# Altium integrated library BB Converter Digital to Analog.IntLib: 269 symbols (part 2 of 6)
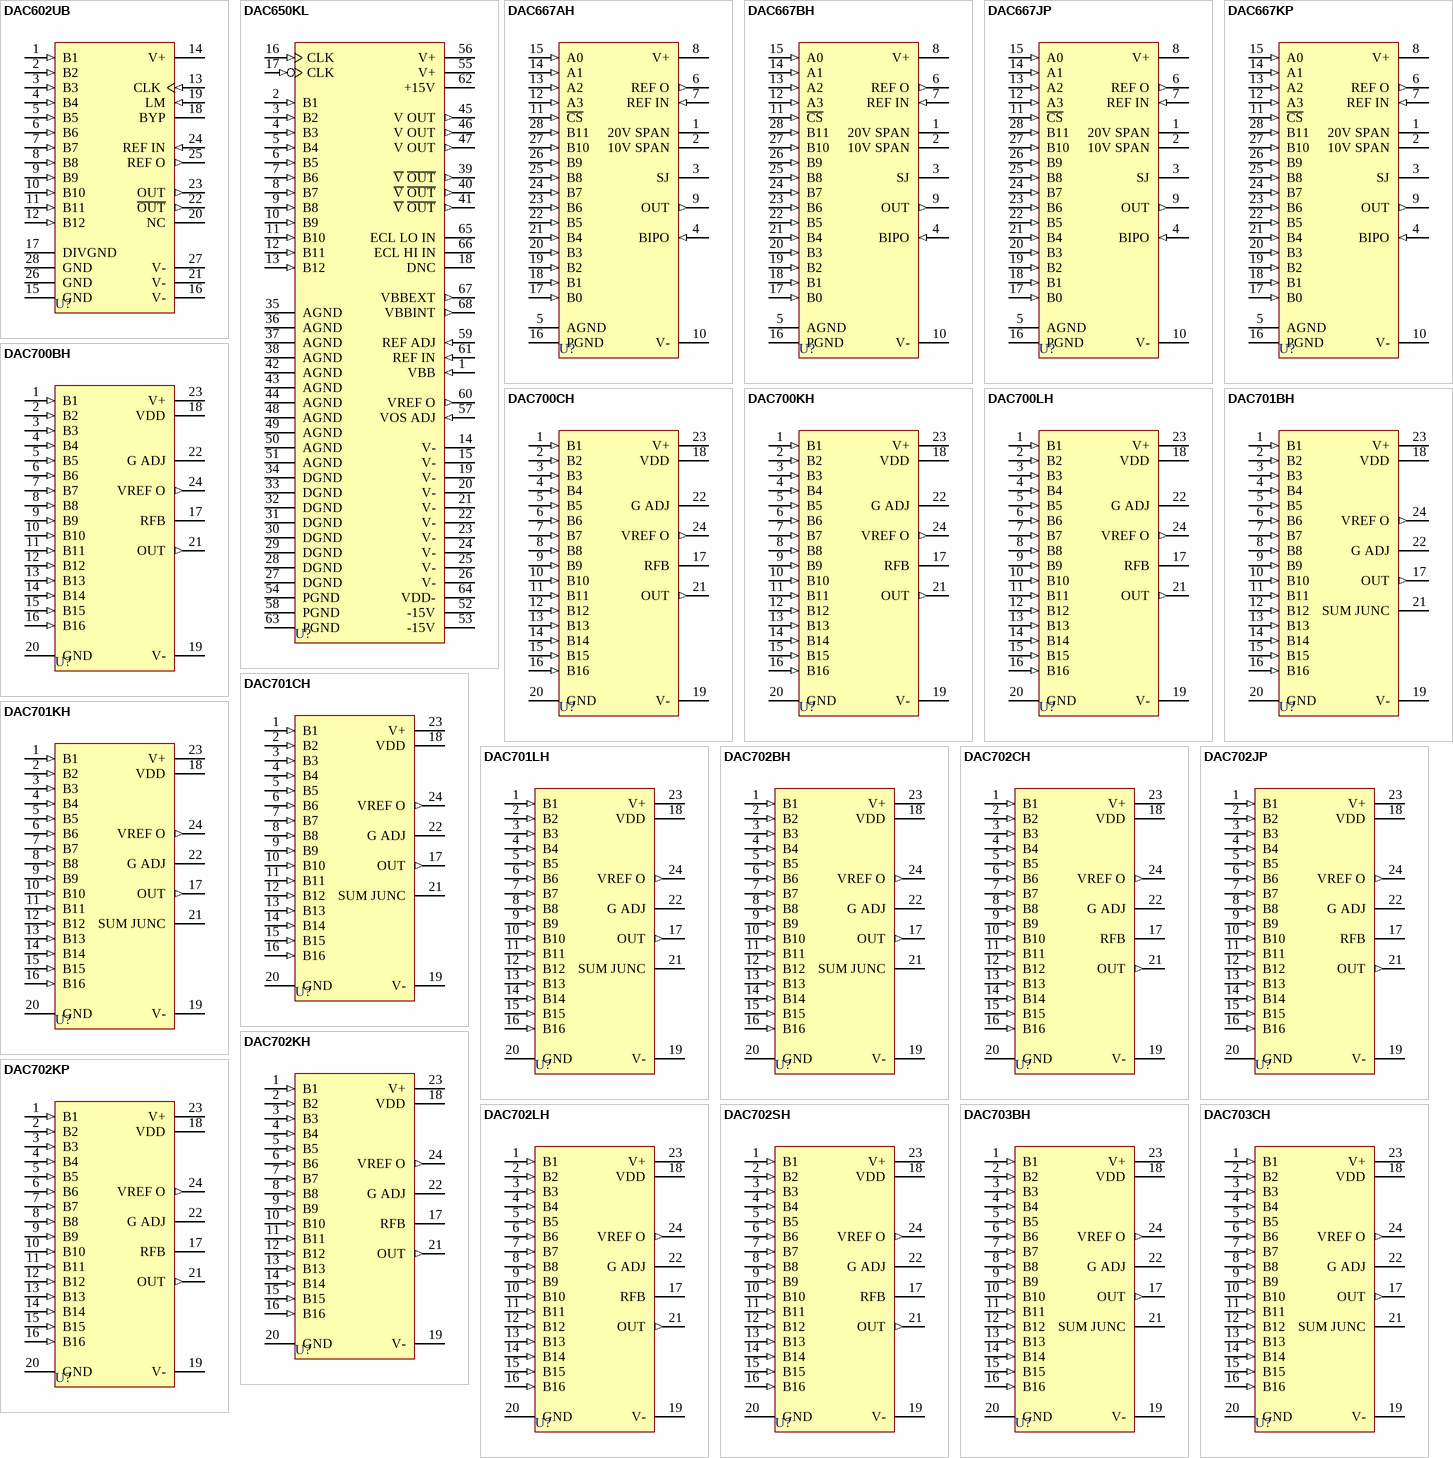
[diagram p11: symbols DAC602UB to DAC703CH]

## DAC650KL
designator U?
12-Bit 500MHz Digital-to-Analog Converter; Note: Do not connect pin 18; Published: 8-Jun-2000; LatestRevisionDate: 13-Apr-2006; LatestRevisionNote: IPC-7351 Footprint Added.; DatasheetVersion: 1994; PackageReference: 256; Publisher: Altium Limited; PackageDescription: 68-Pin Quad Flat Pack 1.27 mm Pitch; ComponentLink1Description: Manufacturer Link; ComponentLink1URL: http://www.ti.com/
footprint 256_N (QFP, 68-Leads, Body 24x24mm, Pitch 1.27mm, IPC Medium Density)
footprint 256_L (QFP, 68-Leads, Body 24x24mm, Pitch 1.27mm, IPC High Density)
footprint 256_M (QFP, 68-Leads, Body 24x24mm, Pitch 1.27mm, IPC Low Density)
3D model DAC650-QFP68 (68-Pin Quad Flat Pack 1.27 mm Pitch)
pins: 1 VBB (in), 2 B1 (in), 3 B2 (in), 4 B3 (in), 5 B4 (in), 6 B5 (in), 7 B6 (in), 8 B7 (in), 9 B8 (in), 10 B9 (in), 11 B10 (in), 12 B11 (in), 13 B12 (in), 14 V- (power), 15 V- (power), 16 CLK (in), 17 CLK (in), 18 DNC, 19 V- (power), 20 V- (power), 21 V- (power), 22 V- (power), 23 V- (power), 24 V- (power), 25 V- (power), 26 V- (power), 27 DGND (power), 28 DGND (power), 29 DGND (power), 30 DGND (power), 31 DGND (power), 32 DGND (power), 33 DGND (power), 34 DGND (power), 35 AGND (power), 36 AGND (power), 37 AGND (power), 38 AGND (power), 39 ~{V} ~{OUT} (out), 40 ~{V} ~{OUT} (out), 41 ~{V} ~{OUT} (out), 42 AGND (power), 43 AGND (power), 44 AGND (power), 45 V OUT (out), 46 V OUT (out), 47 V OUT (out), 48 AGND (power), 49 AGND (power), 50 AGND (power), 51 AGND (power), 52 -15V (power), 53 -15V (power), 54 PGND (power), 55 V+ (power), 56 V+ (power), 57 VOS ADJ (in), 58 PGND (power), 59 REF ADJ (in), 60 VREF O (out), 61 REF IN (in), 62 +15V (power), 63 PGND (power), 64 VDD- (power), 65 ECL LO IN, 66 ECL HI IN, 67 VBBEXT (out), 68 VBBINT (out)

## DAC667AH
designator U?
Microprocessor-Compatible 12-Bit Digital-to-Analog Converter; Published: 8-Jun-2000; LatestRevisionDate: 06-Jun-2005; LatestRevisionNote: Stylized 3D Model Added.; DatasheetVersion: 1996; PackageVersion: revC; PackageReference: 149C; Publisher: Altium Limited; PackageDescription: DIP; 28 Leads; Row Spacing 15.24 mm; Pitch 2.54 mm; ComponentLink1Description: Manufacturer Link; ComponentLink1URL: http://www.ti.com/
footprint 149C (DIP; 28 Leads; Row Spacing 15.24 mm; Pitch 2.54 mm)
3D model 149 (DIP; 28 Leads; Row Spacing 15.24 mm; Pitch 2.54 mm)
pins: 1 20V SPAN, 2 10V SPAN, 3 SJ, 4 BIPO (in), 5 AGND (power), 6 REF O (out), 7 REF IN (in), 8 V+ (power), 9 OUT (out), 10 V- (power), 11 ~{CS} (in), 12 A3 (in), 13 A2 (in), 14 A1 (in), 15 A0 (in), 16 PGND (power), 17 B0 (in), 18 B1 (in), 19 B2 (in), 20 B3 (in), 21 B4 (in), 22 B5 (in), 23 B6 (in), 24 B7 (in), 25 B8 (in), 26 B9 (in), 27 B10 (in), 28 B11 (in)

## DAC667BH
designator U?
Microprocessor-Compatible 12-Bit Digital-to-Analog Converter; Published: 8-Jun-2000; LatestRevisionDate: 06-Jun-2005; LatestRevisionNote: Stylized 3D Model Added.; DatasheetVersion: 1996; PackageVersion: revC; PackageReference: 149C; Publisher: Altium Limited; PackageDescription: DIP; 28 Leads; Row Spacing 15.24 mm; Pitch 2.54 mm; ComponentLink1Description: Manufacturer Link; ComponentLink1URL: http://www.ti.com/
footprint 149C (DIP; 28 Leads; Row Spacing 15.24 mm; Pitch 2.54 mm)
3D model 149 (DIP; 28 Leads; Row Spacing 15.24 mm; Pitch 2.54 mm)
pins: 1 20V SPAN, 2 10V SPAN, 3 SJ, 4 BIPO (in), 5 AGND (power), 6 REF O (out), 7 REF IN (in), 8 V+ (power), 9 OUT (out), 10 V- (power), 11 ~{CS} (in), 12 A3 (in), 13 A2 (in), 14 A1 (in), 15 A0 (in), 16 PGND (power), 17 B0 (in), 18 B1 (in), 19 B2 (in), 20 B3 (in), 21 B4 (in), 22 B5 (in), 23 B6 (in), 24 B7 (in), 25 B8 (in), 26 B9 (in), 27 B10 (in), 28 B11 (in)

## DAC667JP
designator U?
Microprocessor-Compatible 12-Bit Digital-to-Analog Converter; Published: 8-Jun-2000; LatestRevisionDate: 06-Jun-2005; LatestRevisionNote: Stylized 3D Model Added.; DatasheetVersion: 1994; PackageVersion: revJ; PackageReference: 215J; Publisher: Altium Limited; PackageDescription: DIP; 28 Leads; Row Spacing 15.24 mm; Pitch 2.54 mm; Code_JEDEC: MS-011-AB; ComponentLink1Description: Manufacturer Link; ComponentLink1URL: http://www.ti.com/
footprint 215J (DIP; 28 Leads; Row Spacing 15.24 mm; Pitch 2.54 mm)
3D model 215J (DIP; 28 Leads; Row Spacing 15.24 mm; Pitch 2.54 mm)
pins: 1 20V SPAN, 2 10V SPAN, 3 SJ, 4 BIPO (in), 5 AGND (power), 6 REF O (out), 7 REF IN (in), 8 V+ (power), 9 OUT (out), 10 V- (power), 11 ~{CS} (in), 12 A3 (in), 13 A2 (in), 14 A1 (in), 15 A0 (in), 16 PGND (power), 17 B0 (in), 18 B1 (in), 19 B2 (in), 20 B3 (in), 21 B4 (in), 22 B5 (in), 23 B6 (in), 24 B7 (in), 25 B8 (in), 26 B9 (in), 27 B10 (in), 28 B11 (in)

## DAC667KP
designator U?
Microprocessor-Compatible 12-Bit Digital-to-Analog Converter; Published: 8-Jun-2000; LatestRevisionDate: 06-Jun-2005; LatestRevisionNote: Stylized 3D Model Added.; DatasheetVersion: 1994; PackageVersion: revJ; PackageReference: 215J; Publisher: Altium Limited; PackageDescription: DIP; 28 Leads; Row Spacing 15.24 mm; Pitch 2.54 mm; Code_JEDEC: MS-011-AB; ComponentLink1Description: Manufacturer Link; ComponentLink1URL: http://www.ti.com/
footprint 215J (DIP; 28 Leads; Row Spacing 15.24 mm; Pitch 2.54 mm)
3D model 215J (DIP; 28 Leads; Row Spacing 15.24 mm; Pitch 2.54 mm)
pins: 1 20V SPAN, 2 10V SPAN, 3 SJ, 4 BIPO (in), 5 AGND (power), 6 REF O (out), 7 REF IN (in), 8 V+ (power), 9 OUT (out), 10 V- (power), 11 ~{CS} (in), 12 A3 (in), 13 A2 (in), 14 A1 (in), 15 A0 (in), 16 PGND (power), 17 B0 (in), 18 B1 (in), 19 B2 (in), 20 B3 (in), 21 B4 (in), 22 B5 (in), 23 B6 (in), 24 B7 (in), 25 B8 (in), 26 B9 (in), 27 B10 (in), 28 B11 (in)

## DAC700BH
designator U?
Monolithic 16-Bit Digital-to-Analog Converter; Published: 8-Jun-2000; LatestRevisionDate: 06-Jun-2005; LatestRevisionNote: Stylized 3D Model Added.; DatasheetVersion: 1994; PackageVersion: revC; PackageReference: 165C; Publisher: Altium Limited; PackageDescription: DIP; 24 Leads; Row Spacing 15.24 mm; Pitch 2.54 mm; ComponentLink1Description: Manufacturer Link; ComponentLink1URL: http://www.ti.com/
footprint 165C (DIP; 24 Leads; Row Spacing 15.24 mm; Pitch 2.54 mm)
3D model CDIP24 (DIP; 24 Leads; Row Spacing 15.24 mm; Pitch 2.54 mm)
pins: 1 B1 (in), 2 B2 (in), 3 B3 (in), 4 B4 (in), 5 B5 (in), 6 B6 (in), 7 B7 (in), 8 B8 (in), 9 B9 (in), 10 B10 (in), 11 B11 (in), 12 B12 (in), 13 B13 (in), 14 B14 (in), 15 B15 (in), 16 B16 (in), 17 RFB, 18 VDD (power), 19 V- (power), 20 GND (power), 21 OUT (out), 22 G ADJ, 23 V+ (power), 24 VREF O (out)

## DAC700CH
designator U?
Monolithic 16-Bit Digital-to-Analog Converter; Published: 8-Jun-2000; LatestRevisionDate: 06-Jun-2005; LatestRevisionNote: Stylized 3D Model Added.; DatasheetVersion: 1994; PackageVersion: revC; PackageReference: 165C; Publisher: Altium Limited; PackageDescription: DIP; 24 Leads; Row Spacing 15.24 mm; Pitch 2.54 mm; ComponentLink1Description: Manufacturer Link; ComponentLink1URL: http://www.ti.com/
footprint 165C (DIP; 24 Leads; Row Spacing 15.24 mm; Pitch 2.54 mm)
3D model CDIP24 (DIP; 24 Leads; Row Spacing 15.24 mm; Pitch 2.54 mm)
pins: 1 B1 (in), 2 B2 (in), 3 B3 (in), 4 B4 (in), 5 B5 (in), 6 B6 (in), 7 B7 (in), 8 B8 (in), 9 B9 (in), 10 B10 (in), 11 B11 (in), 12 B12 (in), 13 B13 (in), 14 B14 (in), 15 B15 (in), 16 B16 (in), 17 RFB, 18 VDD (power), 19 V- (power), 20 GND (power), 21 OUT (out), 22 G ADJ, 23 V+ (power), 24 VREF O (out)

## DAC700KH
designator U?
Monolithic 16-Bit Digital-to-Analog Converter; Published: 8-Jun-2000; LatestRevisionDate: 06-Jun-2005; LatestRevisionNote: Stylized 3D Model Added.; DatasheetVersion: 1994; PackageVersion: revC; PackageReference: 165C; Publisher: Altium Limited; PackageDescription: DIP; 24 Leads; Row Spacing 15.24 mm; Pitch 2.54 mm; ComponentLink1Description: Manufacturer Link; ComponentLink1URL: http://www.ti.com/
footprint 165C (DIP; 24 Leads; Row Spacing 15.24 mm; Pitch 2.54 mm)
3D model CDIP24 (DIP; 24 Leads; Row Spacing 15.24 mm; Pitch 2.54 mm)
pins: 1 B1 (in), 2 B2 (in), 3 B3 (in), 4 B4 (in), 5 B5 (in), 6 B6 (in), 7 B7 (in), 8 B8 (in), 9 B9 (in), 10 B10 (in), 11 B11 (in), 12 B12 (in), 13 B13 (in), 14 B14 (in), 15 B15 (in), 16 B16 (in), 17 RFB, 18 VDD (power), 19 V- (power), 20 GND (power), 21 OUT (out), 22 G ADJ, 23 V+ (power), 24 VREF O (out)

## DAC700LH
designator U?
Monolithic 16-Bit Digital-to-Analog Converter; Published: 8-Jun-2000; LatestRevisionDate: 06-Jun-2005; LatestRevisionNote: Stylized 3D Model Added.; DatasheetVersion: 1994; PackageVersion: revC; PackageReference: 165C; Publisher: Altium Limited; PackageDescription: DIP; 24 Leads; Row Spacing 15.24 mm; Pitch 2.54 mm; ComponentLink1Description: Manufacturer Link; ComponentLink1URL: http://www.ti.com/
footprint 165C (DIP; 24 Leads; Row Spacing 15.24 mm; Pitch 2.54 mm)
3D model CDIP24 (DIP; 24 Leads; Row Spacing 15.24 mm; Pitch 2.54 mm)
pins: 1 B1 (in), 2 B2 (in), 3 B3 (in), 4 B4 (in), 5 B5 (in), 6 B6 (in), 7 B7 (in), 8 B8 (in), 9 B9 (in), 10 B10 (in), 11 B11 (in), 12 B12 (in), 13 B13 (in), 14 B14 (in), 15 B15 (in), 16 B16 (in), 17 RFB, 18 VDD (power), 19 V- (power), 20 GND (power), 21 OUT (out), 22 G ADJ, 23 V+ (power), 24 VREF O (out)

## DAC701BH
designator U?
Monolithic 16-Bit Digital-to-Analog Converter; Published: 8-Jun-2000; LatestRevisionDate: 06-Jun-2005; LatestRevisionNote: Stylized 3D Model Added.; DatasheetVersion: Mar-1998; PackageVersion: revC; PackageReference: 165C; Publisher: Altium Limited; PackageDescription: DIP; 24 Leads; Row Spacing 15.24 mm; Pitch 2.54 mm; ComponentLink1Description: Manufacturer Link; ComponentLink1URL: http://www.ti.com/; ComponentLink2Description: Datasheet; ComponentLink2URL: http://www-s.ti.com/sc/ds/DAC701.pdf
footprint 165C (DIP; 24 Leads; Row Spacing 15.24 mm; Pitch 2.54 mm)
3D model CDIP24 (DIP; 24 Leads; Row Spacing 15.24 mm; Pitch 2.54 mm)
pins: 1 B1 (in), 2 B2 (in), 3 B3 (in), 4 B4 (in), 5 B5 (in), 6 B6 (in), 7 B7 (in), 8 B8 (in), 9 B9 (in), 10 B10 (in), 11 B11 (in), 12 B12 (in), 13 B13 (in), 14 B14 (in), 15 B15 (in), 16 B16 (in), 17 OUT (out), 18 VDD (power), 19 V- (power), 20 GND (power), 21 SUM JUNC, 22 G ADJ, 23 V+ (power), 24 VREF O (out)

## DAC701CH
designator U?
Monolithic 16-Bit Digital-to-Analog Converter; Published: 8-Jun-2000; LatestRevisionDate: 06-Jun-2005; LatestRevisionNote: Stylized 3D Model Added.; DatasheetVersion: Mar-1998; PackageVersion: revC; PackageReference: 165C; Publisher: Altium Limited; PackageDescription: DIP; 24 Leads; Row Spacing 15.24 mm; Pitch 2.54 mm; ComponentLink1Description: Manufacturer Link; ComponentLink1URL: http://www.ti.com/; ComponentLink2Description: Datasheet; ComponentLink2URL: http://www-s.ti.com/sc/ds/DAC701.pdf
footprint 165C (DIP; 24 Leads; Row Spacing 15.24 mm; Pitch 2.54 mm)
3D model CDIP24 (DIP; 24 Leads; Row Spacing 15.24 mm; Pitch 2.54 mm)
pins: 1 B1 (in), 2 B2 (in), 3 B3 (in), 4 B4 (in), 5 B5 (in), 6 B6 (in), 7 B7 (in), 8 B8 (in), 9 B9 (in), 10 B10 (in), 11 B11 (in), 12 B12 (in), 13 B13 (in), 14 B14 (in), 15 B15 (in), 16 B16 (in), 17 OUT (out), 18 VDD (power), 19 V- (power), 20 GND (power), 21 SUM JUNC, 22 G ADJ, 23 V+ (power), 24 VREF O (out)

## DAC701KH
designator U?
Monolithic 16-Bit Digital-to-Analog Converter; Published: 8-Jun-2000; LatestRevisionDate: 06-Jun-2005; LatestRevisionNote: Stylized 3D Model Added.; DatasheetVersion: Mar-1998; PackageVersion: revC; PackageReference: 165C; Publisher: Altium Limited; PackageDescription: DIP; 24 Leads; Row Spacing 15.24 mm; Pitch 2.54 mm; ComponentLink1Description: Manufacturer Link; ComponentLink1URL: http://www.ti.com/; ComponentLink2Description: Datasheet; ComponentLink2URL: http://www-s.ti.com/sc/ds/DAC701.pdf
footprint 165C (DIP; 24 Leads; Row Spacing 15.24 mm; Pitch 2.54 mm)
3D model CDIP24 (DIP; 24 Leads; Row Spacing 15.24 mm; Pitch 2.54 mm)
pins: 1 B1 (in), 2 B2 (in), 3 B3 (in), 4 B4 (in), 5 B5 (in), 6 B6 (in), 7 B7 (in), 8 B8 (in), 9 B9 (in), 10 B10 (in), 11 B11 (in), 12 B12 (in), 13 B13 (in), 14 B14 (in), 15 B15 (in), 16 B16 (in), 17 OUT (out), 18 VDD (power), 19 V- (power), 20 GND (power), 21 SUM JUNC, 22 G ADJ, 23 V+ (power), 24 VREF O (out)

## DAC701LH
designator U?
Monolithic 16-Bit Digital-to-Analog Converter; Published: 8-Jun-2000; LatestRevisionDate: 06-Jun-2005; LatestRevisionNote: Stylized 3D Model Added.; DatasheetVersion: Mar-1998; PackageVersion: revC; PackageReference: 165C; Publisher: Altium Limited; PackageDescription: DIP; 24 Leads; Row Spacing 15.24 mm; Pitch 2.54 mm; ComponentLink1Description: Manufacturer Link; ComponentLink1URL: http://www.ti.com/; ComponentLink2Description: Datasheet; ComponentLink2URL: http://www-s.ti.com/sc/ds/DAC701.pdf
footprint 165C (DIP; 24 Leads; Row Spacing 15.24 mm; Pitch 2.54 mm)
3D model CDIP24 (DIP; 24 Leads; Row Spacing 15.24 mm; Pitch 2.54 mm)
pins: 1 B1 (in), 2 B2 (in), 3 B3 (in), 4 B4 (in), 5 B5 (in), 6 B6 (in), 7 B7 (in), 8 B8 (in), 9 B9 (in), 10 B10 (in), 11 B11 (in), 12 B12 (in), 13 B13 (in), 14 B14 (in), 15 B15 (in), 16 B16 (in), 17 OUT (out), 18 VDD (power), 19 V- (power), 20 GND (power), 21 SUM JUNC, 22 G ADJ, 23 V+ (power), 24 VREF O (out)

## DAC702BH
designator U?
Monolithic 16-Bit Digital-to-Analog Converter; Published: 8-Jun-2000; LatestRevisionDate: 06-Jun-2005; LatestRevisionNote: Stylized 3D Model Added.; DatasheetVersion: Mar-1998; PackageVersion: revC; PackageReference: 165C; Publisher: Altium Limited; PackageDescription: DIP; 24 Leads; Row Spacing 15.24 mm; Pitch 2.54 mm; ComponentLink1Description: Manufacturer Link; ComponentLink1URL: http://www.ti.com/; ComponentLink2Description: Datasheet; ComponentLink2URL: http://www-s.ti.com/sc/ds/DAC701.pdf
footprint 165C (DIP; 24 Leads; Row Spacing 15.24 mm; Pitch 2.54 mm)
3D model CDIP24 (DIP; 24 Leads; Row Spacing 15.24 mm; Pitch 2.54 mm)
pins: 1 B1 (in), 2 B2 (in), 3 B3 (in), 4 B4 (in), 5 B5 (in), 6 B6 (in), 7 B7 (in), 8 B8 (in), 9 B9 (in), 10 B10 (in), 11 B11 (in), 12 B12 (in), 13 B13 (in), 14 B14 (in), 15 B15 (in), 16 B16 (in), 17 OUT (out), 18 VDD (power), 19 V- (power), 20 GND (power), 21 SUM JUNC, 22 G ADJ, 23 V+ (power), 24 VREF O (out)

## DAC702CH
designator U?
Monolithic 16-Bit Digital-to-Analog Converter; Published: 8-Jun-2000; LatestRevisionDate: 06-Jun-2005; LatestRevisionNote: Stylized 3D Model Added.; DatasheetVersion: Mar-1998; PackageVersion: revC; PackageReference: 165C; Publisher: Altium Limited; PackageDescription: DIP; 24 Leads; Row Spacing 15.24 mm; Pitch 2.54 mm; ComponentLink1Description: Manufacturer Link; ComponentLink1URL: http://www.ti.com/; ComponentLink2Description: Datasheet; ComponentLink2URL: http://www-s.ti.com/sc/ds/DAC701.pdf
footprint 165C (DIP; 24 Leads; Row Spacing 15.24 mm; Pitch 2.54 mm)
3D model CDIP24 (DIP; 24 Leads; Row Spacing 15.24 mm; Pitch 2.54 mm)
pins: 1 B1 (in), 2 B2 (in), 3 B3 (in), 4 B4 (in), 5 B5 (in), 6 B6 (in), 7 B7 (in), 8 B8 (in), 9 B9 (in), 10 B10 (in), 11 B11 (in), 12 B12 (in), 13 B13 (in), 14 B14 (in), 15 B15 (in), 16 B16 (in), 17 RFB, 18 VDD (power), 19 V- (power), 20 GND (power), 21 OUT (out), 22 G ADJ, 23 V+ (power), 24 VREF O (out)

## DAC702JP
designator U?
Monolithic 16-Bit Digital-to-Analog Converter; Published: 8-Jun-2000; LatestRevisionDate: 06-Jun-2005; LatestRevisionNote: Stylized 3D Model Added.; DatasheetVersion: 1994; PackageVersion: revH; PackageReference: 167H; Publisher: Altium Limited; PackageDescription: DIP; 24 Leads; Row Spacing 15.24 mm; Pitch 2.54 mm; Code_JEDEC: MS-011-AA; ComponentLink1Description: Manufacturer Link; ComponentLink1URL: http://www.ti.com/
footprint 167H (DIP; 24 Leads; Row Spacing 15.24 mm; Pitch 2.54 mm)
3D model DIP24D (DIP; 24 Leads; Row Spacing 15.24 mm; Pitch 2.54 mm)
pins: 1 B1 (in), 2 B2 (in), 3 B3 (in), 4 B4 (in), 5 B5 (in), 6 B6 (in), 7 B7 (in), 8 B8 (in), 9 B9 (in), 10 B10 (in), 11 B11 (in), 12 B12 (in), 13 B13 (in), 14 B14 (in), 15 B15 (in), 16 B16 (in), 17 RFB, 18 VDD (power), 19 V- (power), 20 GND (power), 21 OUT (out), 22 G ADJ, 23 V+ (power), 24 VREF O (out)

## DAC702KH
designator U?
Monolithic 16-Bit Digital-to-Analog Converter; Published: 8-Jun-2000; LatestRevisionDate: 06-Jun-2005; LatestRevisionNote: Stylized 3D Model Added.; DatasheetVersion: Mar-1998; PackageVersion: revC; PackageReference: 165C; Publisher: Altium Limited; PackageDescription: DIP; 24 Leads; Row Spacing 15.24 mm; Pitch 2.54 mm; ComponentLink1Description: Manufacturer Link; ComponentLink1URL: http://www.ti.com/; ComponentLink2Description: Datasheet; ComponentLink2URL: http://www-s.ti.com/sc/ds/DAC701.pdf
footprint 165C (DIP; 24 Leads; Row Spacing 15.24 mm; Pitch 2.54 mm)
3D model CDIP24 (DIP; 24 Leads; Row Spacing 15.24 mm; Pitch 2.54 mm)
pins: 1 B1 (in), 2 B2 (in), 3 B3 (in), 4 B4 (in), 5 B5 (in), 6 B6 (in), 7 B7 (in), 8 B8 (in), 9 B9 (in), 10 B10 (in), 11 B11 (in), 12 B12 (in), 13 B13 (in), 14 B14 (in), 15 B15 (in), 16 B16 (in), 17 RFB, 18 VDD (power), 19 V- (power), 20 GND (power), 21 OUT (out), 22 G ADJ, 23 V+ (power), 24 VREF O (out)

## DAC702KP
designator U?
Monolithic 16-Bit Digital-to-Analog Converter; Published: 8-Jun-2000; LatestRevisionDate: 06-Jun-2005; LatestRevisionNote: Stylized 3D Model Added.; DatasheetVersion: 1994; PackageVersion: revH; PackageReference: 167H; Publisher: Altium Limited; PackageDescription: DIP; 24 Leads; Row Spacing 15.24 mm; Pitch 2.54 mm; Code_JEDEC: MS-011-AA; ComponentLink1Description: Manufacturer Link; ComponentLink1URL: http://www.ti.com/
footprint 167H (DIP; 24 Leads; Row Spacing 15.24 mm; Pitch 2.54 mm)
3D model DIP24D (DIP; 24 Leads; Row Spacing 15.24 mm; Pitch 2.54 mm)
pins: 1 B1 (in), 2 B2 (in), 3 B3 (in), 4 B4 (in), 5 B5 (in), 6 B6 (in), 7 B7 (in), 8 B8 (in), 9 B9 (in), 10 B10 (in), 11 B11 (in), 12 B12 (in), 13 B13 (in), 14 B14 (in), 15 B15 (in), 16 B16 (in), 17 RFB, 18 VDD (power), 19 V- (power), 20 GND (power), 21 OUT (out), 22 G ADJ, 23 V+ (power), 24 VREF O (out)

## DAC702LH
designator U?
Monolithic 16-Bit Digital-to-Analog Converter; Published: 8-Jun-2000; LatestRevisionDate: 06-Jun-2005; LatestRevisionNote: Stylized 3D Model Added.; DatasheetVersion: Mar-1998; PackageVersion: revC; PackageReference: 165C; Publisher: Altium Limited; PackageDescription: DIP; 24 Leads; Row Spacing 15.24 mm; Pitch 2.54 mm; ComponentLink1Description: Manufacturer Link; ComponentLink1URL: http://www.ti.com/; ComponentLink2Description: Datasheet; ComponentLink2URL: http://www-s.ti.com/sc/ds/DAC701.pdf
footprint 165C (DIP; 24 Leads; Row Spacing 15.24 mm; Pitch 2.54 mm)
3D model CDIP24 (DIP; 24 Leads; Row Spacing 15.24 mm; Pitch 2.54 mm)
pins: 1 B1 (in), 2 B2 (in), 3 B3 (in), 4 B4 (in), 5 B5 (in), 6 B6 (in), 7 B7 (in), 8 B8 (in), 9 B9 (in), 10 B10 (in), 11 B11 (in), 12 B12 (in), 13 B13 (in), 14 B14 (in), 15 B15 (in), 16 B16 (in), 17 RFB, 18 VDD (power), 19 V- (power), 20 GND (power), 21 OUT (out), 22 G ADJ, 23 V+ (power), 24 VREF O (out)

## DAC702SH
designator U?
Monolithic 16-Bit Digital-to-Analog Converter; Published: 8-Jun-2000; LatestRevisionDate: 06-Jun-2005; LatestRevisionNote: Stylized 3D Model Added.; DatasheetVersion: Mar-1998; PackageVersion: revC; PackageReference: 165C; Publisher: Altium Limited; PackageDescription: DIP; 24 Leads; Row Spacing 15.24 mm; Pitch 2.54 mm; ComponentLink1Description: Manufacturer Link; ComponentLink1URL: http://www.ti.com/; ComponentLink2Description: Datasheet; ComponentLink2URL: http://www-s.ti.com/sc/ds/DAC701.pdf
footprint 165C (DIP; 24 Leads; Row Spacing 15.24 mm; Pitch 2.54 mm)
3D model CDIP24 (DIP; 24 Leads; Row Spacing 15.24 mm; Pitch 2.54 mm)
pins: 1 B1 (in), 2 B2 (in), 3 B3 (in), 4 B4 (in), 5 B5 (in), 6 B6 (in), 7 B7 (in), 8 B8 (in), 9 B9 (in), 10 B10 (in), 11 B11 (in), 12 B12 (in), 13 B13 (in), 14 B14 (in), 15 B15 (in), 16 B16 (in), 17 RFB, 18 VDD (power), 19 V- (power), 20 GND (power), 21 OUT (out), 22 G ADJ, 23 V+ (power), 24 VREF O (out)

## DAC703BH
designator U?
Monolithic 16-Bit Digital-to-Analog Converter; Published: 8-Jun-2000; LatestRevisionDate: 06-Jun-2005; LatestRevisionNote: Stylized 3D Model Added.; DatasheetVersion: Mar-1998; PackageVersion: revC; PackageReference: 165C; Publisher: Altium Limited; PackageDescription: DIP; 24 Leads; Row Spacing 15.24 mm; Pitch 2.54 mm; ComponentLink1Description: Manufacturer Link; ComponentLink1URL: http://www.ti.com/; ComponentLink2Description: Datasheet; ComponentLink2URL: http://www-s.ti.com/sc/ds/DAC701.pdf
footprint 165C (DIP; 24 Leads; Row Spacing 15.24 mm; Pitch 2.54 mm)
3D model CDIP24 (DIP; 24 Leads; Row Spacing 15.24 mm; Pitch 2.54 mm)
pins: 1 B1 (in), 2 B2 (in), 3 B3 (in), 4 B4 (in), 5 B5 (in), 6 B6 (in), 7 B7 (in), 8 B8 (in), 9 B9 (in), 10 B10 (in), 11 B11 (in), 12 B12 (in), 13 B13 (in), 14 B14 (in), 15 B15 (in), 16 B16 (in), 17 OUT (out), 18 VDD (power), 19 V- (power), 20 GND (power), 21 SUM JUNC, 22 G ADJ, 23 V+ (power), 24 VREF O (out)

## DAC703CH
designator U?
Monolithic 16-Bit Digital-to-Analog Converter; Published: 8-Jun-2000; LatestRevisionDate: 06-Jun-2005; LatestRevisionNote: Stylized 3D Model Added.; DatasheetVersion: Mar-1998; PackageVersion: revC; PackageReference: 165C; Publisher: Altium Limited; PackageDescription: DIP; 24 Leads; Row Spacing 15.24 mm; Pitch 2.54 mm; ComponentLink1Description: Manufacturer Link; ComponentLink1URL: http://www.ti.com/; ComponentLink2Description: Datasheet; ComponentLink2URL: http://www-s.ti.com/sc/ds/DAC701.pdf
footprint 165C (DIP; 24 Leads; Row Spacing 15.24 mm; Pitch 2.54 mm)
3D model CDIP24 (DIP; 24 Leads; Row Spacing 15.24 mm; Pitch 2.54 mm)
pins: 1 B1 (in), 2 B2 (in), 3 B3 (in), 4 B4 (in), 5 B5 (in), 6 B6 (in), 7 B7 (in), 8 B8 (in), 9 B9 (in), 10 B10 (in), 11 B11 (in), 12 B12 (in), 13 B13 (in), 14 B14 (in), 15 B15 (in), 16 B16 (in), 17 OUT (out), 18 VDD (power), 19 V- (power), 20 GND (power), 21 SUM JUNC, 22 G ADJ, 23 V+ (power), 24 VREF O (out)

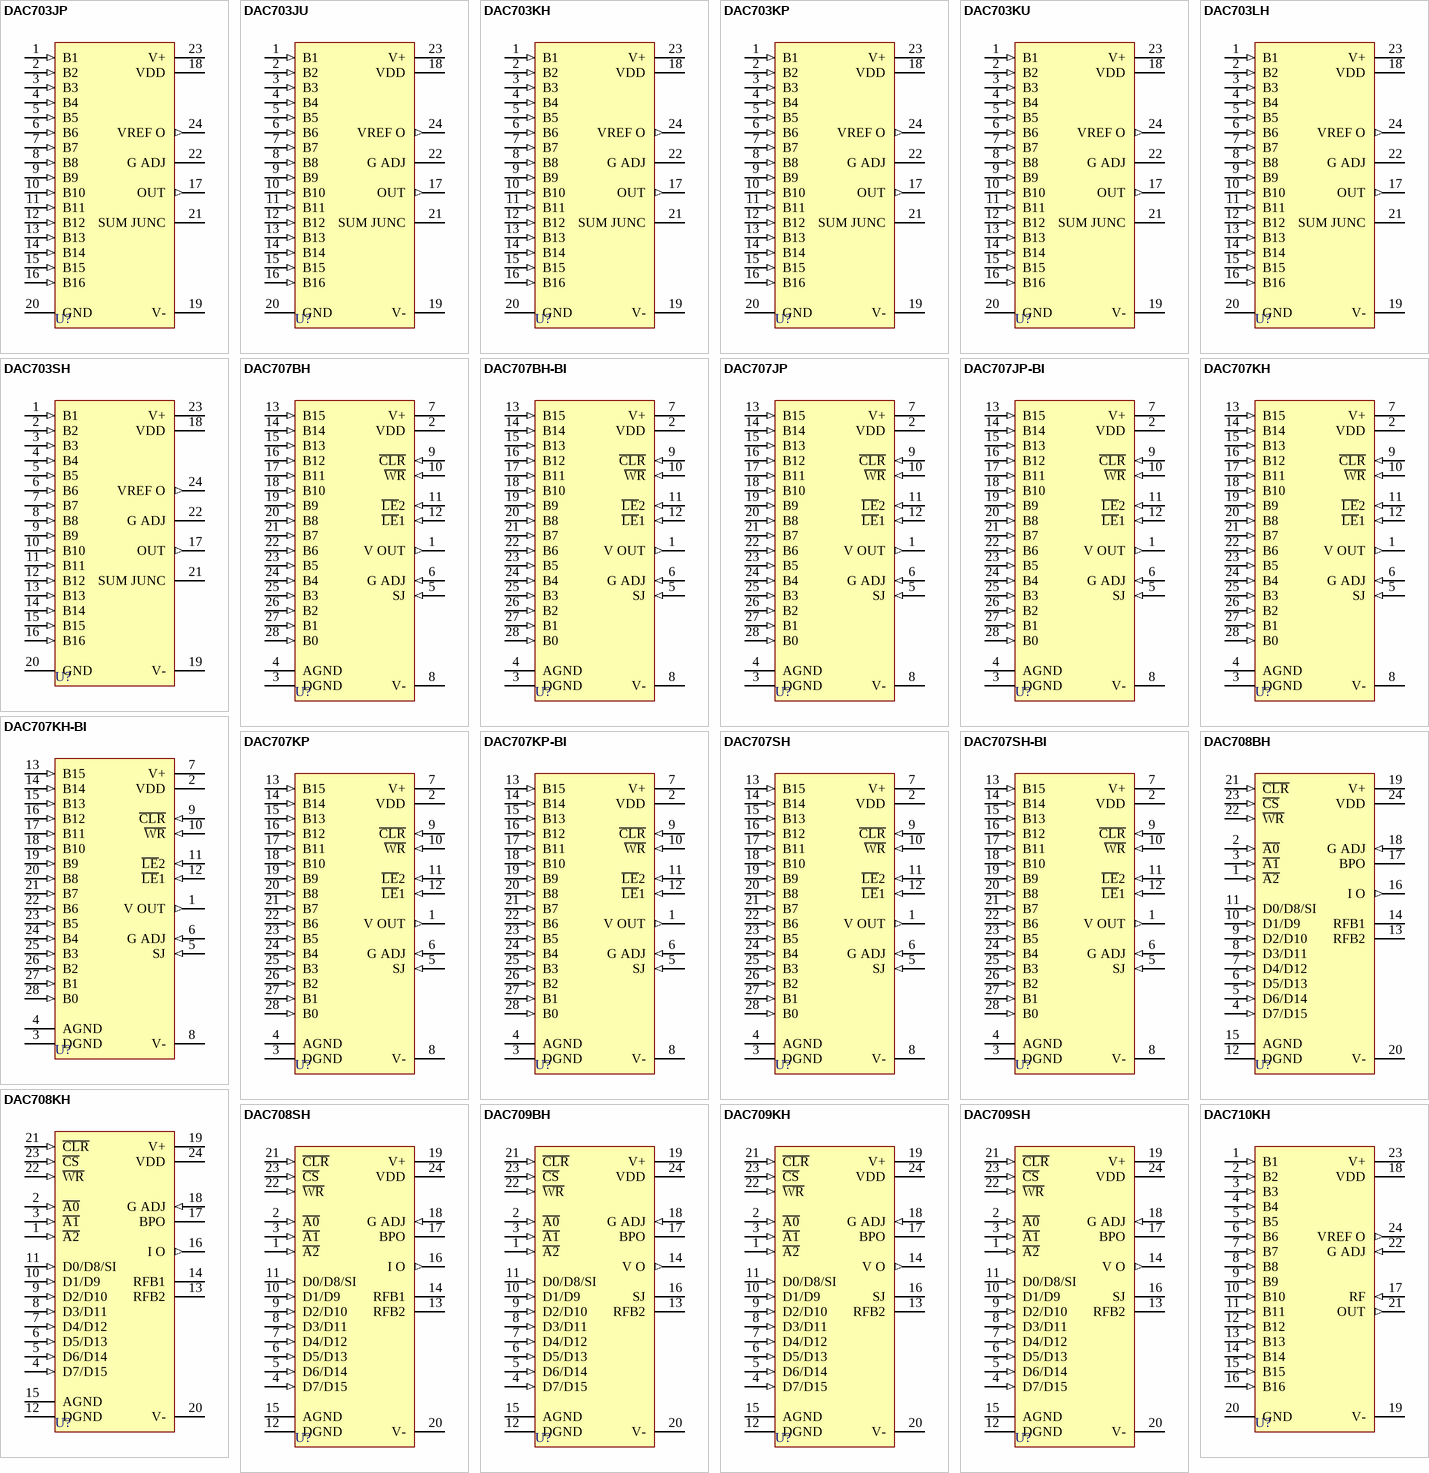
[diagram p3: symbols DAC703JP to DAC710KH]

## DAC703JP
designator U?
Monolithic 16-Bit Digital-to-Analog Converter; Published: 8-Jun-2000; LatestRevisionDate: 06-Jun-2005; LatestRevisionNote: Stylized 3D Model Added.; DatasheetVersion: Mar-1998; PackageVersion: revH; PackageReference: 167H; Publisher: Altium Limited; PackageDescription: DIP; 24 Leads; Row Spacing 15.24 mm; Pitch 2.54 mm; Code_JEDEC: MS-011-AA; ComponentLink1Description: Manufacturer Link; ComponentLink1URL: http://www.ti.com/; ComponentLink2Description: Datasheet; ComponentLink2URL: http://www-s.ti.com/sc/ds/DAC701.pdf
footprint 167H (DIP; 24 Leads; Row Spacing 15.24 mm; Pitch 2.54 mm)
3D model DIP24D (DIP; 24 Leads; Row Spacing 15.24 mm; Pitch 2.54 mm)
pins: 1 B1 (in), 2 B2 (in), 3 B3 (in), 4 B4 (in), 5 B5 (in), 6 B6 (in), 7 B7 (in), 8 B8 (in), 9 B9 (in), 10 B10 (in), 11 B11 (in), 12 B12 (in), 13 B13 (in), 14 B14 (in), 15 B15 (in), 16 B16 (in), 17 OUT (out), 18 VDD (power), 19 V- (power), 20 GND (power), 21 SUM JUNC, 22 G ADJ, 23 V+ (power), 24 VREF O (out)

## DAC703JU
designator U?
Monolithic 16-Bit Digital-to-Analog Converter; Published: 8-Jun-2000; LatestRevisionDate: 13-Apr-2006; LatestRevisionNote: IPC-7351 Footprint Added.; DatasheetVersion: Mar-1998; PackageReference: 239E; Publisher: Altium Limited; PackageDescription: 24-Pin Small Outline Integrated Circuit 1.27 mm Pitch; ComponentLink1Description: Manufacturer Link; ComponentLink1URL: http://www.ti.com/; ComponentLink2Description: Datasheet; ComponentLink2URL: http://www-s.ti.com/sc/ds/DAC701.pdf
footprint 239E_N (SOIC, 24-Leads, Body 15.4x7.5mm, Pitch 1.27mm, IPC Medium Density)
footprint 239E_L (SOIC, 24-Leads, Body 15.4x7.5mm, Pitch 1.27mm, IPC High Density)
footprint 239E_M (SOIC, 24-Leads, Body 15.4x7.5mm, Pitch 1.27mm, IPC Low Density)
3D model 239 (24-Pin Small Outline Integrated Circuit 1.27 mm Pitch)
pins: 1 B1 (in), 2 B2 (in), 3 B3 (in), 4 B4 (in), 5 B5 (in), 6 B6 (in), 7 B7 (in), 8 B8 (in), 9 B9 (in), 10 B10 (in), 11 B11 (in), 12 B12 (in), 13 B13 (in), 14 B14 (in), 15 B15 (in), 16 B16 (in), 17 OUT (out), 18 VDD (power), 19 V- (power), 20 GND (power), 21 SUM JUNC, 22 G ADJ, 23 V+ (power), 24 VREF O (out)

## DAC703KH
designator U?
Monolithic 16-Bit Digital-to-Analog Converter; Published: 8-Jun-2000; LatestRevisionDate: 06-Jun-2005; LatestRevisionNote: Stylized 3D Model Added.; DatasheetVersion: Mar-1998; PackageVersion: revC; PackageReference: 165C; Publisher: Altium Limited; PackageDescription: DIP; 24 Leads; Row Spacing 15.24 mm; Pitch 2.54 mm; ComponentLink1Description: Manufacturer Link; ComponentLink1URL: http://www.ti.com/; ComponentLink2Description: Datasheet; ComponentLink2URL: http://www-s.ti.com/sc/ds/DAC701.pdf
footprint 165C (DIP; 24 Leads; Row Spacing 15.24 mm; Pitch 2.54 mm)
3D model CDIP24 (DIP; 24 Leads; Row Spacing 15.24 mm; Pitch 2.54 mm)
pins: 1 B1 (in), 2 B2 (in), 3 B3 (in), 4 B4 (in), 5 B5 (in), 6 B6 (in), 7 B7 (in), 8 B8 (in), 9 B9 (in), 10 B10 (in), 11 B11 (in), 12 B12 (in), 13 B13 (in), 14 B14 (in), 15 B15 (in), 16 B16 (in), 17 OUT (out), 18 VDD (power), 19 V- (power), 20 GND (power), 21 SUM JUNC, 22 G ADJ, 23 V+ (power), 24 VREF O (out)

## DAC703KP
designator U?
Monolithic 16-Bit Digital-to-Analog Converter; Published: 8-Jun-2000; LatestRevisionDate: 06-Jun-2005; LatestRevisionNote: Stylized 3D Model Added.; DatasheetVersion: Mar-1998; PackageVersion: revH; PackageReference: 167H; Publisher: Altium Limited; PackageDescription: DIP; 24 Leads; Row Spacing 15.24 mm; Pitch 2.54 mm; Code_JEDEC: MS-011-AA; ComponentLink1Description: Manufacturer Link; ComponentLink1URL: http://www.ti.com/; ComponentLink2Description: Datasheet; ComponentLink2URL: http://www-s.ti.com/sc/ds/DAC701.pdf
footprint 167H (DIP; 24 Leads; Row Spacing 15.24 mm; Pitch 2.54 mm)
3D model DIP24D (DIP; 24 Leads; Row Spacing 15.24 mm; Pitch 2.54 mm)
pins: 1 B1 (in), 2 B2 (in), 3 B3 (in), 4 B4 (in), 5 B5 (in), 6 B6 (in), 7 B7 (in), 8 B8 (in), 9 B9 (in), 10 B10 (in), 11 B11 (in), 12 B12 (in), 13 B13 (in), 14 B14 (in), 15 B15 (in), 16 B16 (in), 17 OUT (out), 18 VDD (power), 19 V- (power), 20 GND (power), 21 SUM JUNC, 22 G ADJ, 23 V+ (power), 24 VREF O (out)

## DAC703KU
designator U?
Monolithic 16-Bit Digital-to-Analog Converter; Published: 8-Jun-2000; LatestRevisionDate: 13-Apr-2006; LatestRevisionNote: IPC-7351 Footprint Added.; DatasheetVersion: Mar-1998; PackageReference: 239E; Publisher: Altium Limited; PackageDescription: 24-Pin Small Outline Integrated Circuit 1.27 mm Pitch; ComponentLink1Description: Manufacturer Link; ComponentLink1URL: http://www.ti.com/; ComponentLink2Description: Datasheet; ComponentLink2URL: http://www-s.ti.com/sc/ds/DAC701.pdf
footprint 239E_N (SOIC, 24-Leads, Body 15.4x7.5mm, Pitch 1.27mm, IPC Medium Density)
footprint 239E_L (SOIC, 24-Leads, Body 15.4x7.5mm, Pitch 1.27mm, IPC High Density)
footprint 239E_M (SOIC, 24-Leads, Body 15.4x7.5mm, Pitch 1.27mm, IPC Low Density)
3D model 239 (24-Pin Small Outline Integrated Circuit 1.27 mm Pitch)
pins: 1 B1 (in), 2 B2 (in), 3 B3 (in), 4 B4 (in), 5 B5 (in), 6 B6 (in), 7 B7 (in), 8 B8 (in), 9 B9 (in), 10 B10 (in), 11 B11 (in), 12 B12 (in), 13 B13 (in), 14 B14 (in), 15 B15 (in), 16 B16 (in), 17 OUT (out), 18 VDD (power), 19 V- (power), 20 GND (power), 21 SUM JUNC, 22 G ADJ, 23 V+ (power), 24 VREF O (out)

## DAC703LH
designator U?
Monolithic 16-Bit Digital-to-Analog Converter; Published: 8-Jun-2000; LatestRevisionDate: 06-Jun-2005; LatestRevisionNote: Stylized 3D Model Added.; DatasheetVersion: Mar-1998; PackageVersion: revC; PackageReference: 165C; Publisher: Altium Limited; PackageDescription: DIP; 24 Leads; Row Spacing 15.24 mm; Pitch 2.54 mm; ComponentLink1Description: Manufacturer Link; ComponentLink1URL: http://www.ti.com/; ComponentLink2Description: Datasheet; ComponentLink2URL: http://www-s.ti.com/sc/ds/DAC701.pdf
footprint 165C (DIP; 24 Leads; Row Spacing 15.24 mm; Pitch 2.54 mm)
3D model CDIP24 (DIP; 24 Leads; Row Spacing 15.24 mm; Pitch 2.54 mm)
pins: 1 B1 (in), 2 B2 (in), 3 B3 (in), 4 B4 (in), 5 B5 (in), 6 B6 (in), 7 B7 (in), 8 B8 (in), 9 B9 (in), 10 B10 (in), 11 B11 (in), 12 B12 (in), 13 B13 (in), 14 B14 (in), 15 B15 (in), 16 B16 (in), 17 OUT (out), 18 VDD (power), 19 V- (power), 20 GND (power), 21 SUM JUNC, 22 G ADJ, 23 V+ (power), 24 VREF O (out)

## DAC703SH
designator U?
Monolithic 16-Bit Digital-to-Analog Converter; Published: 8-Jun-2000; LatestRevisionDate: 06-Jun-2005; LatestRevisionNote: Stylized 3D Model Added.; DatasheetVersion: Mar-1998; PackageVersion: revC; PackageReference: 165C; Publisher: Altium Limited; PackageDescription: DIP; 24 Leads; Row Spacing 15.24 mm; Pitch 2.54 mm; ComponentLink1Description: Manufacturer Link; ComponentLink1URL: http://www.ti.com/; ComponentLink2Description: Datasheet; ComponentLink2URL: http://www-s.ti.com/sc/ds/DAC701.pdf
footprint 165C (DIP; 24 Leads; Row Spacing 15.24 mm; Pitch 2.54 mm)
3D model CDIP24 (DIP; 24 Leads; Row Spacing 15.24 mm; Pitch 2.54 mm)
pins: 1 B1 (in), 2 B2 (in), 3 B3 (in), 4 B4 (in), 5 B5 (in), 6 B6 (in), 7 B7 (in), 8 B8 (in), 9 B9 (in), 10 B10 (in), 11 B11 (in), 12 B12 (in), 13 B13 (in), 14 B14 (in), 15 B15 (in), 16 B16 (in), 17 OUT (out), 18 VDD (power), 19 V- (power), 20 GND (power), 21 SUM JUNC, 22 G ADJ, 23 V+ (power), 24 VREF O (out)

## DAC707BH
designator U?
Microprocessor-Compatible 16-Bit Digital-to-Analog Converter; Published: 8-Jun-2000; LatestRevisionDate: 06-Jun-2005; LatestRevisionNote: Stylized 3D Model Added.; PackageVersion: revC; PackageReference: 149C; Publisher: Altium Limited; PackageDescription: DIP; 28 Leads; Row Spacing 15.24 mm; Pitch 2.54 mm; ComponentLink1Description: Manufacturer Link; ComponentLink1URL: http://www.ti.com/; ComponentLink2Description: Datasheet; ComponentLink2URL: http://www-s.ti.com/sc/ds/DAC707.pdf
footprint 149C (DIP; 28 Leads; Row Spacing 15.24 mm; Pitch 2.54 mm)
3D model 149 (DIP; 28 Leads; Row Spacing 15.24 mm; Pitch 2.54 mm)
pins: 1 V OUT (out), 2 VDD (power), 3 DGND (power), 4 AGND (power), 5 SJ (in), 6 G ADJ (in), 7 V+ (power), 8 V- (power), 9 ~{CLR} (in), 10 ~{WR} (in), 11 ~{LE}2 (in), 12 ~{LE}1 (in), 13 B15 (in), 14 B14 (in), 15 B13 (in), 16 B12 (in), 17 B11 (in), 18 B10 (in), 19 B9 (in), 20 B8 (in), 21 B7 (in), 22 B6 (in), 23 B5 (in), 24 B4 (in), 25 B3 (in), 26 B2 (in), 27 B1 (in), 28 B0 (in)

## DAC707BH-BI
designator U?
Microprocessor-Compatible 16-Bit Digital-to-Analog Converter; ComponentAvailability: Not for New Design; Published: 8-Jun-2000; LatestRevisionDate: 06-Jun-2005; LatestRevisionNote: Stylized 3D Model Added.; DatasheetVersion: 1994; PackageReference: 144; Publisher: Altium Limited; PackageDescription: DIP; 28 Leads; Row Spacing 15.24 mm; Pitch 2.54 mm; ComponentLink1Description: Manufacturer Link; ComponentLink1URL: http://www.ti.com/; ComponentLink2Description: Datasheet; ComponentLink2URL: http://www-s.ti.com/sc/ds/dac707.pdf
footprint 144 (DIP; 28 Leads; Row Spacing 15.24 mm; Pitch 2.54 mm)
3D model 144 (DIP; 28 Leads; Row Spacing 15.24 mm; Pitch 2.54 mm)
pins: 1 V OUT (out), 2 VDD (power), 3 DGND (power), 4 AGND (power), 5 SJ (in), 6 G ADJ (in), 7 V+ (power), 8 V- (power), 9 ~{CLR} (in), 10 ~{WR} (in), 11 ~{LE}2 (in), 12 ~{LE}1 (in), 13 B15 (in), 14 B14 (in), 15 B13 (in), 16 B12 (in), 17 B11 (in), 18 B10 (in), 19 B9 (in), 20 B8 (in), 21 B7 (in), 22 B6 (in), 23 B5 (in), 24 B4 (in), 25 B3 (in), 26 B2 (in), 27 B1 (in), 28 B0 (in)

## DAC707JP
designator U?
Microprocessor-Compatible 16-Bit Digital-to-Analog Converter; Published: 8-Jun-2000; LatestRevisionDate: 06-Jun-2005; LatestRevisionNote: Stylized 3D Model Added.; PackageVersion: revJ; PackageReference: 215J; Publisher: Altium Limited; PackageDescription: DIP; 28 Leads; Row Spacing 15.24 mm; Pitch 2.54 mm; Code_JEDEC: MS-011-AB; ComponentLink1Description: Manufacturer Link; ComponentLink1URL: http://www.ti.com/; ComponentLink2Description: Datasheet; ComponentLink2URL: http://www-s.ti.com/sc/ds/DAC707.pdf
footprint 215J (DIP; 28 Leads; Row Spacing 15.24 mm; Pitch 2.54 mm)
3D model 215J (DIP; 28 Leads; Row Spacing 15.24 mm; Pitch 2.54 mm)
pins: 1 V OUT (out), 2 VDD (power), 3 DGND (power), 4 AGND (power), 5 SJ (in), 6 G ADJ (in), 7 V+ (power), 8 V- (power), 9 ~{CLR} (in), 10 ~{WR} (in), 11 ~{LE}2 (in), 12 ~{LE}1 (in), 13 B15 (in), 14 B14 (in), 15 B13 (in), 16 B12 (in), 17 B11 (in), 18 B10 (in), 19 B9 (in), 20 B8 (in), 21 B7 (in), 22 B6 (in), 23 B5 (in), 24 B4 (in), 25 B3 (in), 26 B2 (in), 27 B1 (in), 28 B0 (in)

## DAC707JP-BI
designator U?
Microprocessor-Compatible 16-Bit Digital-to-Analog Converter; Published: 8-Jun-2000; LatestRevisionDate: 06-Jun-2005; LatestRevisionNote: Stylized 3D Model Added.; PackageVersion: revJ; PackageReference: 215J; Publisher: Altium Limited; PackageDescription: DIP; 28 Leads; Row Spacing 15.24 mm; Pitch 2.54 mm; Code_JEDEC: MS-011-AB; ComponentLink1Description: Manufacturer Link; ComponentLink1URL: http://www.ti.com/; ComponentLink2Description: Datasheet; ComponentLink2URL: http://www-s.ti.com/sc/ds/DAC707.pdf
footprint 215J (DIP; 28 Leads; Row Spacing 15.24 mm; Pitch 2.54 mm)
3D model 215J (DIP; 28 Leads; Row Spacing 15.24 mm; Pitch 2.54 mm)
pins: 1 V OUT (out), 2 VDD (power), 3 DGND (power), 4 AGND (power), 5 SJ (in), 6 G ADJ (in), 7 V+ (power), 8 V- (power), 9 ~{CLR} (in), 10 ~{WR} (in), 11 ~{LE}2 (in), 12 ~{LE}1 (in), 13 B15 (in), 14 B14 (in), 15 B13 (in), 16 B12 (in), 17 B11 (in), 18 B10 (in), 19 B9 (in), 20 B8 (in), 21 B7 (in), 22 B6 (in), 23 B5 (in), 24 B4 (in), 25 B3 (in), 26 B2 (in), 27 B1 (in), 28 B0 (in)

## DAC707KH
designator U?
Microprocessor-Compatible 16-Bit Digital-to-Analog Converter; Published: 8-Jun-2000; LatestRevisionDate: 06-Jun-2005; LatestRevisionNote: Stylized 3D Model Added.; PackageVersion: revC; PackageReference: 149C; Publisher: Altium Limited; PackageDescription: DIP; 28 Leads; Row Spacing 15.24 mm; Pitch 2.54 mm; ComponentLink1Description: Manufacturer Link; ComponentLink1URL: http://www.ti.com/; ComponentLink2Description: Datasheet; ComponentLink2URL: http://www-s.ti.com/sc/ds/DAC707.pdf
footprint 149C (DIP; 28 Leads; Row Spacing 15.24 mm; Pitch 2.54 mm)
3D model 149 (DIP; 28 Leads; Row Spacing 15.24 mm; Pitch 2.54 mm)
pins: 1 V OUT (out), 2 VDD (power), 3 DGND (power), 4 AGND (power), 5 SJ (in), 6 G ADJ (in), 7 V+ (power), 8 V- (power), 9 ~{CLR} (in), 10 ~{WR} (in), 11 ~{LE}2 (in), 12 ~{LE}1 (in), 13 B15 (in), 14 B14 (in), 15 B13 (in), 16 B12 (in), 17 B11 (in), 18 B10 (in), 19 B9 (in), 20 B8 (in), 21 B7 (in), 22 B6 (in), 23 B5 (in), 24 B4 (in), 25 B3 (in), 26 B2 (in), 27 B1 (in), 28 B0 (in)

## DAC707KH-BI
designator U?
Microprocessor-Compatible 16-Bit Digital-to-Analog Converter; ComponentAvailability: Not for New Design; Published: 8-Jun-2000; LatestRevisionDate: 06-Jun-2005; LatestRevisionNote: Stylized 3D Model Added.; DatasheetVersion: 1994; PackageReference: 144; Publisher: Altium Limited; PackageDescription: DIP; 28 Leads; Row Spacing 15.24 mm; Pitch 2.54 mm; ComponentLink1Description: Manufacturer Link; ComponentLink1URL: http://www.ti.com/; ComponentLink2Description: Datasheet; ComponentLink2URL: http://www-s.ti.com/sc/ds/dac707.pdf
footprint 144 (DIP; 28 Leads; Row Spacing 15.24 mm; Pitch 2.54 mm)
3D model 144 (DIP; 28 Leads; Row Spacing 15.24 mm; Pitch 2.54 mm)
pins: 1 V OUT (out), 2 VDD (power), 3 DGND (power), 4 AGND (power), 5 SJ (in), 6 G ADJ (in), 7 V+ (power), 8 V- (power), 9 ~{CLR} (in), 10 ~{WR} (in), 11 ~{LE}2 (in), 12 ~{LE}1 (in), 13 B15 (in), 14 B14 (in), 15 B13 (in), 16 B12 (in), 17 B11 (in), 18 B10 (in), 19 B9 (in), 20 B8 (in), 21 B7 (in), 22 B6 (in), 23 B5 (in), 24 B4 (in), 25 B3 (in), 26 B2 (in), 27 B1 (in), 28 B0 (in)

## DAC707KP
designator U?
Microprocessor-Compatible 16-Bit Digital-to-Analog Converter; Published: 8-Jun-2000; LatestRevisionDate: 06-Jun-2005; LatestRevisionNote: Stylized 3D Model Added.; PackageVersion: revJ; PackageReference: 215J; Publisher: Altium Limited; PackageDescription: DIP; 28 Leads; Row Spacing 15.24 mm; Pitch 2.54 mm; Code_JEDEC: MS-011-AB; ComponentLink1Description: Manufacturer Link; ComponentLink1URL: http://www.ti.com/; ComponentLink2Description: Datasheet; ComponentLink2URL: http://www-s.ti.com/sc/ds/DAC707.pdf
footprint 215J (DIP; 28 Leads; Row Spacing 15.24 mm; Pitch 2.54 mm)
3D model 215J (DIP; 28 Leads; Row Spacing 15.24 mm; Pitch 2.54 mm)
pins: 1 V OUT (out), 2 VDD (power), 3 DGND (power), 4 AGND (power), 5 SJ (in), 6 G ADJ (in), 7 V+ (power), 8 V- (power), 9 ~{CLR} (in), 10 ~{WR} (in), 11 ~{LE}2 (in), 12 ~{LE}1 (in), 13 B15 (in), 14 B14 (in), 15 B13 (in), 16 B12 (in), 17 B11 (in), 18 B10 (in), 19 B9 (in), 20 B8 (in), 21 B7 (in), 22 B6 (in), 23 B5 (in), 24 B4 (in), 25 B3 (in), 26 B2 (in), 27 B1 (in), 28 B0 (in)

## DAC707KP-BI
designator U?
Microprocessor-Compatible 16-Bit Digital-to-Analog Converter; ComponentAvailability: Not for New Design; Published: 8-Jun-2000; LatestRevisionDate: 06-Jun-2005; LatestRevisionNote: Stylized 3D Model Added.; DatasheetVersion: 1994; PackageVersion: revJ; PackageReference: 215J; Publisher: Altium Limited; PackageDescription: DIP; 28 Leads; Row Spacing 15.24 mm; Pitch 2.54 mm; Code_JEDEC: MS-011-AB; ComponentLink1Description: Manufacturer Link; ComponentLink1URL: http://www.ti.com/; ComponentLink2Description: Datasheet; ComponentLink2URL: http://www-s.ti.com/sc/ds/dac707.pdf
footprint 215J (DIP; 28 Leads; Row Spacing 15.24 mm; Pitch 2.54 mm)
3D model 215J (DIP; 28 Leads; Row Spacing 15.24 mm; Pitch 2.54 mm)
pins: 1 V OUT (out), 2 VDD (power), 3 DGND (power), 4 AGND (power), 5 SJ (in), 6 G ADJ (in), 7 V+ (power), 8 V- (power), 9 ~{CLR} (in), 10 ~{WR} (in), 11 ~{LE}2 (in), 12 ~{LE}1 (in), 13 B15 (in), 14 B14 (in), 15 B13 (in), 16 B12 (in), 17 B11 (in), 18 B10 (in), 19 B9 (in), 20 B8 (in), 21 B7 (in), 22 B6 (in), 23 B5 (in), 24 B4 (in), 25 B3 (in), 26 B2 (in), 27 B1 (in), 28 B0 (in)

## DAC707SH
designator U?
Microprocessor-Compatible 16-Bit Digital-to-Analog Converter; Published: 8-Jun-2000; LatestRevisionDate: 06-Jun-2005; LatestRevisionNote: Stylized 3D Model Added.; PackageVersion: revC; PackageReference: 149C; Publisher: Altium Limited; PackageDescription: DIP; 28 Leads; Row Spacing 15.24 mm; Pitch 2.54 mm; ComponentLink1Description: Manufacturer Link; ComponentLink1URL: http://www.ti.com/; ComponentLink2Description: Datasheet; ComponentLink2URL: http://www-s.ti.com/sc/ds/DAC707.pdf
footprint 149C (DIP; 28 Leads; Row Spacing 15.24 mm; Pitch 2.54 mm)
3D model 149 (DIP; 28 Leads; Row Spacing 15.24 mm; Pitch 2.54 mm)
pins: 1 V OUT (out), 2 VDD (power), 3 DGND (power), 4 AGND (power), 5 SJ (in), 6 G ADJ (in), 7 V+ (power), 8 V- (power), 9 ~{CLR} (in), 10 ~{WR} (in), 11 ~{LE}2 (in), 12 ~{LE}1 (in), 13 B15 (in), 14 B14 (in), 15 B13 (in), 16 B12 (in), 17 B11 (in), 18 B10 (in), 19 B9 (in), 20 B8 (in), 21 B7 (in), 22 B6 (in), 23 B5 (in), 24 B4 (in), 25 B3 (in), 26 B2 (in), 27 B1 (in), 28 B0 (in)

## DAC707SH-BI
designator U?
Microprocessor-Compatible 16-Bit Digital-to-Analog Converter; ComponentAvailability: Not for New Design; Published: 8-Jun-2000; LatestRevisionDate: 06-Jun-2005; LatestRevisionNote: Stylized 3D Model Added.; DatasheetVersion: 1994; PackageReference: 144; Publisher: Altium Limited; PackageDescription: DIP; 28 Leads; Row Spacing 15.24 mm; Pitch 2.54 mm; ComponentLink1Description: Manufacturer Link; ComponentLink1URL: http://www.ti.com/; ComponentLink2Description: Datasheet; ComponentLink2URL: http://www-s.ti.com/sc/ds/dac707.pdf
footprint 144 (DIP; 28 Leads; Row Spacing 15.24 mm; Pitch 2.54 mm)
3D model 144 (DIP; 28 Leads; Row Spacing 15.24 mm; Pitch 2.54 mm)
pins: 1 V OUT (out), 2 VDD (power), 3 DGND (power), 4 AGND (power), 5 SJ (in), 6 G ADJ (in), 7 V+ (power), 8 V- (power), 9 ~{CLR} (in), 10 ~{WR} (in), 11 ~{LE}2 (in), 12 ~{LE}1 (in), 13 B15 (in), 14 B14 (in), 15 B13 (in), 16 B12 (in), 17 B11 (in), 18 B10 (in), 19 B9 (in), 20 B8 (in), 21 B7 (in), 22 B6 (in), 23 B5 (in), 24 B4 (in), 25 B3 (in), 26 B2 (in), 27 B1 (in), 28 B0 (in)

## DAC708BH
designator U?
Microprocessor-Compatible 16-Bit Digital-to-Analog Converter; Published: 8-Jun-2000; LatestRevisionDate: 06-Jun-2005; LatestRevisionNote: Stylized 3D Model Added.; PackageVersion: revC; PackageReference: 165C; Publisher: Altium Limited; PackageDescription: DIP; 24 Leads; Row Spacing 15.24 mm; Pitch 2.54 mm; ComponentLink1Description: Manufacturer Link; ComponentLink1URL: http://www.ti.com/; ComponentLink2Description: Datasheet; ComponentLink2URL: http://www-s.ti.com/sc/ds/DAC707.pdf
footprint 165C (DIP; 24 Leads; Row Spacing 15.24 mm; Pitch 2.54 mm)
3D model CDIP24 (DIP; 24 Leads; Row Spacing 15.24 mm; Pitch 2.54 mm)
pins: 1 ~{A2} (in), 2 ~{A0} (in), 3 ~{A1} (in), 4 D7/D15 (in), 5 D6/D14 (in), 6 D5/D13 (in), 7 D4/D12 (in), 8 D3/D11 (in), 9 D2/D10 (in), 10 D1/D9 (in), 11 D0/D8/SI (in), 12 DGND (power), 13 RFB2, 14 RFB1, 15 AGND (power), 16 I O (out), 17 BPO, 18 G ADJ (in), 19 V+ (power), 20 V- (power), 21 ~{CLR} (in), 22 ~{WR} (in), 23 ~{CS} (in), 24 VDD (power)

## DAC708KH
designator U?
Microprocessor-Compatible 16-Bit Digital-to-Analog Converter; Published: 8-Jun-2000; LatestRevisionDate: 06-Jun-2005; LatestRevisionNote: Stylized 3D Model Added.; PackageVersion: revC; PackageReference: 165C; Publisher: Altium Limited; PackageDescription: DIP; 24 Leads; Row Spacing 15.24 mm; Pitch 2.54 mm; ComponentLink1Description: Manufacturer Link; ComponentLink1URL: http://www.ti.com/; ComponentLink2Description: Datasheet; ComponentLink2URL: http://www-s.ti.com/sc/ds/DAC707.pdf
footprint 165C (DIP; 24 Leads; Row Spacing 15.24 mm; Pitch 2.54 mm)
3D model CDIP24 (DIP; 24 Leads; Row Spacing 15.24 mm; Pitch 2.54 mm)
pins: 1 ~{A2} (in), 2 ~{A0} (in), 3 ~{A1} (in), 4 D7/D15 (in), 5 D6/D14 (in), 6 D5/D13 (in), 7 D4/D12 (in), 8 D3/D11 (in), 9 D2/D10 (in), 10 D1/D9 (in), 11 D0/D8/SI (in), 12 DGND (power), 13 RFB2, 14 RFB1, 15 AGND (power), 16 I O (out), 17 BPO, 18 G ADJ (in), 19 V+ (power), 20 V- (power), 21 ~{CLR} (in), 22 ~{WR} (in), 23 ~{CS} (in), 24 VDD (power)

## DAC708SH
designator U?
Microprocessor-Compatible 16-Bit Digital-to-Analog Converter; Published: 8-Jun-2000; LatestRevisionDate: 06-Jun-2005; LatestRevisionNote: Stylized 3D Model Added.; PackageVersion: revC; PackageReference: 165C; Publisher: Altium Limited; PackageDescription: DIP; 24 Leads; Row Spacing 15.24 mm; Pitch 2.54 mm; ComponentLink1Description: Manufacturer Link; ComponentLink1URL: http://www.ti.com/; ComponentLink2Description: Datasheet; ComponentLink2URL: http://www-s.ti.com/sc/ds/DAC707.pdf
footprint 165C (DIP; 24 Leads; Row Spacing 15.24 mm; Pitch 2.54 mm)
3D model CDIP24 (DIP; 24 Leads; Row Spacing 15.24 mm; Pitch 2.54 mm)
pins: 1 ~{A2} (in), 2 ~{A0} (in), 3 ~{A1} (in), 4 D7/D15 (in), 5 D6/D14 (in), 6 D5/D13 (in), 7 D4/D12 (in), 8 D3/D11 (in), 9 D2/D10 (in), 10 D1/D9 (in), 11 D0/D8/SI (in), 12 DGND (power), 13 RFB2, 14 RFB1, 15 AGND (power), 16 I O (out), 17 BPO, 18 G ADJ (in), 19 V+ (power), 20 V- (power), 21 ~{CLR} (in), 22 ~{WR} (in), 23 ~{CS} (in), 24 VDD (power)

## DAC709BH
designator U?
Microprocessor-Compatible 16-Bit Digital-to-Analog Converter; Published: 8-Jun-2000; LatestRevisionDate: 06-Jun-2005; LatestRevisionNote: Stylized 3D Model Added.; PackageVersion: revC; PackageReference: 165C; Publisher: Altium Limited; PackageDescription: DIP; 24 Leads; Row Spacing 15.24 mm; Pitch 2.54 mm; ComponentLink1Description: Manufacturer Link; ComponentLink1URL: http://www.ti.com/; ComponentLink2Description: Datasheet; ComponentLink2URL: http://www-s.ti.com/sc/ds/DAC707.pdf
footprint 165C (DIP; 24 Leads; Row Spacing 15.24 mm; Pitch 2.54 mm)
3D model CDIP24 (DIP; 24 Leads; Row Spacing 15.24 mm; Pitch 2.54 mm)
pins: 1 ~{A2} (in), 2 ~{A0} (in), 3 ~{A1} (in), 4 D7/D15 (in), 5 D6/D14 (in), 6 D5/D13 (in), 7 D4/D12 (in), 8 D3/D11 (in), 9 D2/D10 (in), 10 D1/D9 (in), 11 D0/D8/SI (in), 12 DGND (power), 13 RFB2, 14 V O (out), 15 AGND (power), 16 SJ, 17 BPO, 18 G ADJ (in), 19 V+ (power), 20 V- (power), 21 ~{CLR} (in), 22 ~{WR} (in), 23 ~{CS} (in), 24 VDD (power)

## DAC709KH
designator U?
Microprocessor-Compatible 16-Bit Digital-to-Analog Converter; Published: 8-Jun-2000; LatestRevisionDate: 06-Jun-2005; LatestRevisionNote: Stylized 3D Model Added.; PackageVersion: revC; PackageReference: 165C; Publisher: Altium Limited; PackageDescription: DIP; 24 Leads; Row Spacing 15.24 mm; Pitch 2.54 mm; ComponentLink1Description: Manufacturer Link; ComponentLink1URL: http://www.ti.com/; ComponentLink2Description: Datasheet; ComponentLink2URL: http://www-s.ti.com/sc/ds/DAC707.pdf
footprint 165C (DIP; 24 Leads; Row Spacing 15.24 mm; Pitch 2.54 mm)
3D model CDIP24 (DIP; 24 Leads; Row Spacing 15.24 mm; Pitch 2.54 mm)
pins: 1 ~{A2} (in), 2 ~{A0} (in), 3 ~{A1} (in), 4 D7/D15 (in), 5 D6/D14 (in), 6 D5/D13 (in), 7 D4/D12 (in), 8 D3/D11 (in), 9 D2/D10 (in), 10 D1/D9 (in), 11 D0/D8/SI (in), 12 DGND (power), 13 RFB2, 14 V O (out), 15 AGND (power), 16 SJ, 17 BPO, 18 G ADJ (in), 19 V+ (power), 20 V- (power), 21 ~{CLR} (in), 22 ~{WR} (in), 23 ~{CS} (in), 24 VDD (power)

## DAC709SH
designator U?
Microprocessor-Compatible 16-Bit Digital-to-Analog Converter; Published: 8-Jun-2000; LatestRevisionDate: 06-Jun-2005; LatestRevisionNote: Stylized 3D Model Added.; PackageVersion: revC; PackageReference: 165C; Publisher: Altium Limited; PackageDescription: DIP; 24 Leads; Row Spacing 15.24 mm; Pitch 2.54 mm; ComponentLink1Description: Manufacturer Link; ComponentLink1URL: http://www.ti.com/; ComponentLink2Description: Datasheet; ComponentLink2URL: http://www-s.ti.com/sc/ds/DAC707.pdf
footprint 165C (DIP; 24 Leads; Row Spacing 15.24 mm; Pitch 2.54 mm)
3D model CDIP24 (DIP; 24 Leads; Row Spacing 15.24 mm; Pitch 2.54 mm)
pins: 1 ~{A2} (in), 2 ~{A0} (in), 3 ~{A1} (in), 4 D7/D15 (in), 5 D6/D14 (in), 6 D5/D13 (in), 7 D4/D12 (in), 8 D3/D11 (in), 9 D2/D10 (in), 10 D1/D9 (in), 11 D0/D8/SI (in), 12 DGND (power), 13 RFB2, 14 V O (out), 15 AGND (power), 16 SJ, 17 BPO, 18 G ADJ (in), 19 V+ (power), 20 V- (power), 21 ~{CLR} (in), 22 ~{WR} (in), 23 ~{CS} (in), 24 VDD (power)

## DAC710KH
designator U?
Monolithic 16-Bit Robotics Digital-to-Analog Converter; Published: 8-Jun-2000; LatestRevisionDate: 06-Jun-2005; LatestRevisionNote: Stylized 3D Model Added.; DatasheetVersion: 1989; PackageReference: 125; Publisher: Altium Limited; PackageDescription: DIP; 24 Leads; Row Spacing 15.24 mm; Pitch 2.54 mm; ComponentLink1Description: Manufacturer Link; ComponentLink1URL: http://www.ti.com/
footprint 125 (DIP; 24 Leads; Row Spacing 15.24 mm; Pitch 2.54 mm)
3D model CDIP24 (DIP; 24 Leads; Row Spacing 15.24 mm; Pitch 2.54 mm)
pins: 1 B1 (in), 2 B2 (in), 3 B3 (in), 4 B4 (in), 5 B5 (in), 6 B6 (in), 7 B7 (in), 8 B8 (in), 9 B9 (in), 10 B10 (in), 11 B11 (in), 12 B12 (in), 13 B13 (in), 14 B14 (in), 15 B15 (in), 16 B16 (in), 17 RF (in), 18 VDD (power), 19 V- (power), 20 GND (power), 21 OUT (out), 22 G ADJ (in), 23 V+ (power), 24 VREF O (out)

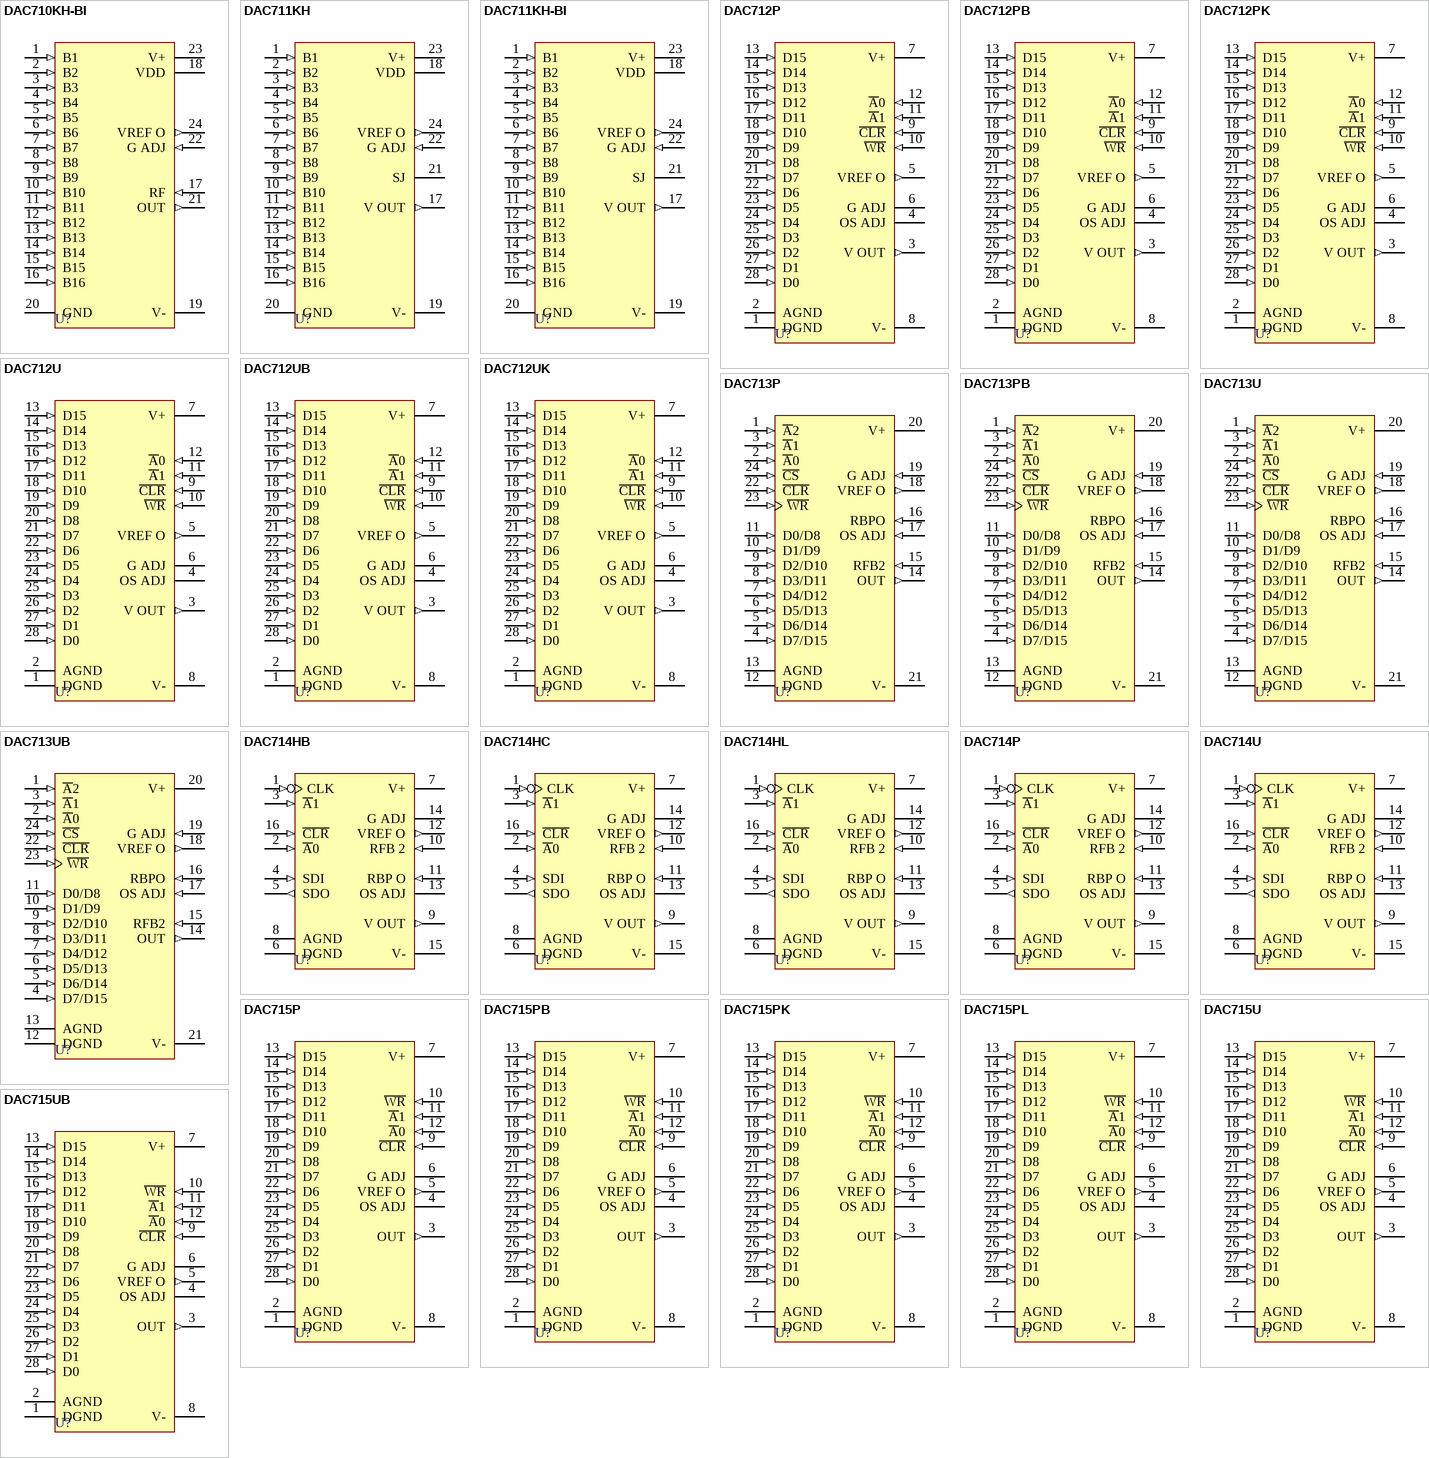
[diagram p4: symbols DAC710KH-BI to DAC715UB]

## DAC710KH-BI
designator U?
Monolithic 16-Bit Robotics Digital-to-Analog Converter; Published: 8-Jun-2000; LatestRevisionDate: 06-Jun-2005; LatestRevisionNote: Stylized 3D Model Added.; DatasheetVersion: 1989; PackageReference: 125; Publisher: Altium Limited; PackageDescription: DIP; 24 Leads; Row Spacing 15.24 mm; Pitch 2.54 mm; ComponentLink1Description: Manufacturer Link; ComponentLink1URL: http://www.ti.com/
footprint 125 (DIP; 24 Leads; Row Spacing 15.24 mm; Pitch 2.54 mm)
3D model CDIP24 (DIP; 24 Leads; Row Spacing 15.24 mm; Pitch 2.54 mm)
pins: 1 B1 (in), 2 B2 (in), 3 B3 (in), 4 B4 (in), 5 B5 (in), 6 B6 (in), 7 B7 (in), 8 B8 (in), 9 B9 (in), 10 B10 (in), 11 B11 (in), 12 B12 (in), 13 B13 (in), 14 B14 (in), 15 B15 (in), 16 B16 (in), 17 RF (in), 18 VDD (power), 19 V- (power), 20 GND (power), 21 OUT (out), 22 G ADJ (in), 23 V+ (power), 24 VREF O (out)

## DAC711KH
designator U?
Monolithic 16-Bit Robotics Digital-to-Analog Converter; Published: 8-Jun-2000; LatestRevisionDate: 06-Jun-2005; LatestRevisionNote: Stylized 3D Model Added.; DatasheetVersion: 1989; PackageReference: 125; Publisher: Altium Limited; PackageDescription: DIP; 24 Leads; Row Spacing 15.24 mm; Pitch 2.54 mm; ComponentLink1Description: Manufacturer Link; ComponentLink1URL: http://www.ti.com/
footprint 125 (DIP; 24 Leads; Row Spacing 15.24 mm; Pitch 2.54 mm)
3D model CDIP24 (DIP; 24 Leads; Row Spacing 15.24 mm; Pitch 2.54 mm)
pins: 1 B1 (in), 2 B2 (in), 3 B3 (in), 4 B4 (in), 5 B5 (in), 6 B6 (in), 7 B7 (in), 8 B8 (in), 9 B9 (in), 10 B10 (in), 11 B11 (in), 12 B12 (in), 13 B13 (in), 14 B14 (in), 15 B15 (in), 16 B16 (in), 17 V OUT (out), 18 VDD (power), 19 V- (power), 20 GND (power), 21 SJ, 22 G ADJ (in), 23 V+ (power), 24 VREF O (out)

## DAC711KH-BI
designator U?
Monolithic 16-Bit Robotics Digital-to-Analog Converter; Published: 8-Jun-2000; LatestRevisionDate: 06-Jun-2005; LatestRevisionNote: Stylized 3D Model Added.; DatasheetVersion: 1989; PackageReference: 125; Publisher: Altium Limited; PackageDescription: DIP; 24 Leads; Row Spacing 15.24 mm; Pitch 2.54 mm; ComponentLink1Description: Manufacturer Link; ComponentLink1URL: http://www.ti.com/
footprint 125 (DIP; 24 Leads; Row Spacing 15.24 mm; Pitch 2.54 mm)
3D model CDIP24 (DIP; 24 Leads; Row Spacing 15.24 mm; Pitch 2.54 mm)
pins: 1 B1 (in), 2 B2 (in), 3 B3 (in), 4 B4 (in), 5 B5 (in), 6 B6 (in), 7 B7 (in), 8 B8 (in), 9 B9 (in), 10 B10 (in), 11 B11 (in), 12 B12 (in), 13 B13 (in), 14 B14 (in), 15 B15 (in), 16 B16 (in), 17 V OUT (out), 18 VDD (power), 19 V- (power), 20 GND (power), 21 SJ, 22 G ADJ (in), 23 V+ (power), 24 VREF O (out)

## DAC712P
designator U?
16-Bit Digital-to-Analog Converter with 16-Bit Bus Interface; Published: 8-Jun-2000; LatestRevisionDate: 06-Jun-2005; LatestRevisionNote: Stylized 3D Model Added.; DatasheetVersion: May-1998; PackageVersion: revD; PackageReference: 246D; Publisher: Altium Limited; PackageDescription: DIP; 28 Leads; Row Spacing 7.62 mm; Pitch 2.54 mm; ComponentLink1Description: Manufacturer Link; ComponentLink1URL: http://www.ti.com/; ComponentLink2Description: Datasheet; ComponentLink2URL: http://www-s.ti.com/sc/ds/DAC712.pdf
footprint 246D (DIP; 28 Leads; Row Spacing 7.62 mm; Pitch 2.54 mm)
3D model 246D (DIP; 28 Leads; Row Spacing 7.62 mm; Pitch 2.54 mm)
pins: 1 DGND (power), 2 AGND (power), 3 V OUT (out), 4 OS ADJ, 5 VREF O (out), 6 G ADJ, 7 V+ (power), 8 V- (power), 9 ~{CLR} (in), 10 ~{WR} (in), 11 ~{A}1 (in), 12 ~{A}0 (in), 13 D15 (in), 14 D14 (in), 15 D13 (in), 16 D12 (in), 17 D11 (in), 18 D10 (in), 19 D9 (in), 20 D8 (in), 21 D7 (in), 22 D6 (in), 23 D5 (in), 24 D4 (in), 25 D3 (in), 26 D2 (in), 27 D1 (in), 28 D0 (in)